# Altium schematic symbol library mcus.SchLib: 1 symbol
Pins are listed as number, name and electrical type; pins without a type are passive.

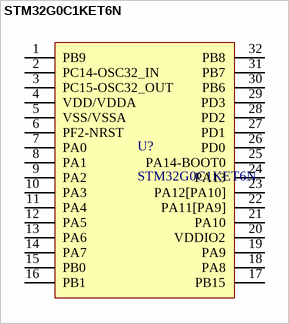
[diagram p0: symbol STM32G0C1KET6N]

## STM32G0C1KET6N
designator U?
STM32G0, Arm® Cortex®-M0+ 32-bit MCU, 512KB Flash, 144KB RAM, LQFP32; Manufacturer: ST; Value: STM32G0C1KET6N; Part Number: STM32G0C1KET6N
footprint STM32G0C1KET6N_LQFP32 (LQFP32, Body 7,00x7,00mm, Pitch 0,80mm, IPC Medium Density)
pins: 1 PB9, 2 PC14-OSC32_IN, 3 PC15-OSC32_OUT, 4 VDD/VDDA, 5 VSS/VSSA, 6 PF2-NRST, 7 PA0, 8 PA1, 9 PA2, 10 PA3, 11 PA4, 12 PA5, 13 PA6, 14 PA7, 15 PB0, 16 PB1, 17 PB15, 18 PA8, 19 PA9, 20 VDDIO2, 21 PA10, 22 PA11[PA9], 23 PA12[PA10], 24 PA13, 25 PA14-BOOT0, 26 PD0, 27 PD1, 28 PD2, 29 PD3, 30 PB6, 31 PB7, 32 PB8